# EAGLE library part SI7006-A20-IM (library APU_ENGR480_UPS_EAGLE_Library)
Silicon Labs Si7006-A20-IM Temperature & Humidity Sensor 6-Pin DFN, -40 +125 C Source: Datasheet <https://componentsearchengine.com/Datasheets/2/SI7006-A20-IM.pdf>
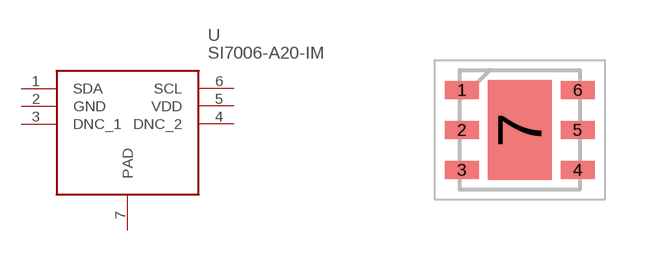
[diagram p8: symbol with the pads of SON100P300X300X80-7N; footprint SON100P300X300X80-7N]

Designator prefix U

## SI7006-A20-IM (DESCRIPTION: Silicon Labs Si7006-A20-IM Temperature & Humidity Sensor 6-Pin DFN, -40 +125 C; HEIGHT: 0.8mm; MANUFACTURER_NAME: Silicon Labs; MANUFACTURER_PART_NUMBER: Si7006-A20-IM; MOUSER_PART_NUMBER: 634-SI7006-A20-IM; MOUSER_PRICE-STOCK: https://www.mouser.com/Search/Refine.aspx?Keyword=634-SI7006-A20-IM; RS_PART_NUMBER: 8652274P; RS_PRICE-STOCK: http://uk.rs-online.com/web/p/products/8652274P)  [SON100P300X300X80-7N]
1  SDA
2  GND  pwr
3  DNC_1
4  DNC_2
5  VDD  pwr
6  SCL  in
7  PAD  pwr

## Footprint SON100P300X300X80-7N (pad centres in mm)
3x3 6-Pin DFN
smd 0.85 x 0.45: 1 -1.45,1; 2 -1.45,0; 3 -1.45,-1; 4 1.45,-1; 5 1.45,0; 6 1.45,1
smd 1.6 x 2.5: 7 0,0